# Altium schematic symbol library SPB_Variable_Resistors.SchLib: 2 symbols
Pins are listed as number, name and electrical type; pins without a type are passive.

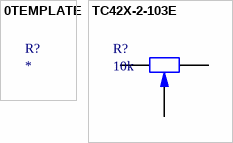
[diagram p0: symbols 0TEMPLATE to TC42X-2-103E]

## 0TEMPLATE
designator R?
Supplier 1: Mouser; Supplier 2: Digi-Key; Supplier Part Number 2: *; Supplier Part Number 1: *; Manufacturer Part Number: *; Mouser Part #: *; Digi-Key Part Number: *; Value: *

## TC42X-2-103E
designator R?, comment 10k
Trimmer Resistors - SMD 10K 2mm SMD Single Turn; Manufacturer Part Number: TC42X-2-103E; Supplier 1: Mouser; Supplier 2: Digi-Key; Supplier Part Number 2: 652-TC42X-2-103E; Supplier Part Number 1: *; Mouser Part #: 652-TC42X-2-103E; Digi-Key Part Number: *; Value: 10k
footprint TC42X2103E
pins: 1 CCW, 2 WIPER, 3 CW